# EAGLE library part ECL82 (library Röhren)
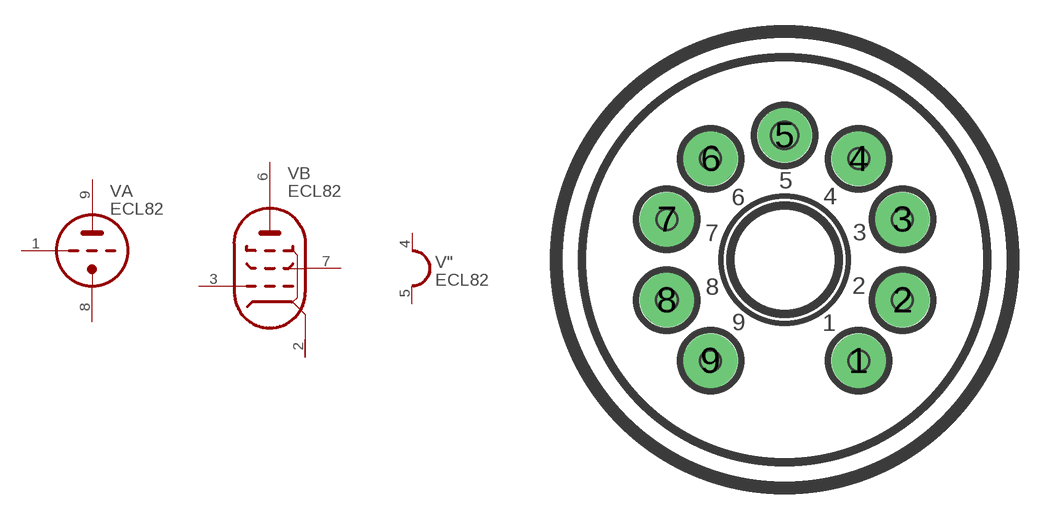
[diagram p85: symbol with the pads of 9POL; footprint 9POL]

Designator prefix V; gates A=TRIODE B=PENTODE "=HEATER_1

## ECL82  [9POL]
1  A:TG  pas
2  B:PK  pas
3  B:PG  pas
4  ":H1  pas
5  ":H2  pas
6  B:PA  pas
7  B:PSG  pas
8  A:TK  pas
9  A:TA  pas

## Footprint 9POL (pad centres in mm)
drill 1.2 pad 2.54 round: 1 3.493,-4.763; 2 5.556,-1.905; 3 5.556,1.905; 4 3.493,4.763; 5 0,5.874; 6 -3.493,4.763; 7 -5.556,1.905; 8 -5.556,-1.905; 9 -3.493,-4.763